# EAGLE library part MP7740 (library MyComponents)
MP7740 15W Class D Mono Single Ended Audio Amplifer
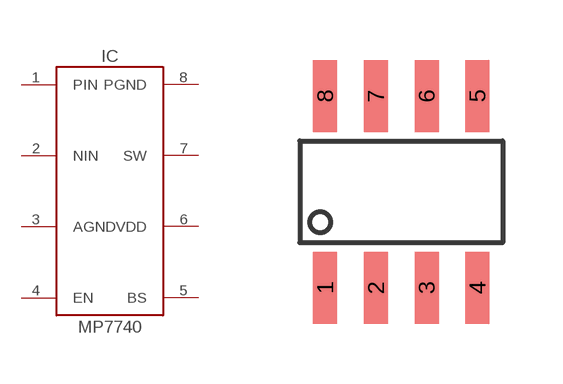
[diagram p29: symbol with the pads of SOIC-8; footprint SOIC-8]

Designator prefix IC

## MP7740 (MOUSER: 946-MP7740DNLFZ)  [SOIC-8]
1  PIN
2  NIN
3  AGND
4  EN
5  BS
6  VDD
7  SW
8  PGND

## Footprint SOIC-8 (pad centres in mm)
SMALL OUTLINE INTEGRATED CIRCUIT body 3.9 mm/JEDEC MS-012AA
smd 0.6 x 1.8: 1 -1.905,-2.4; 2 -0.635,-2.4; 3 0.635,-2.4; 4 1.905,-2.4; 5 1.905,2.4; 6 0.635,2.4; 7 -0.635,2.4; 8 -1.905,2.4